# EAGLE library part MX150-4X2 (library Skoba)
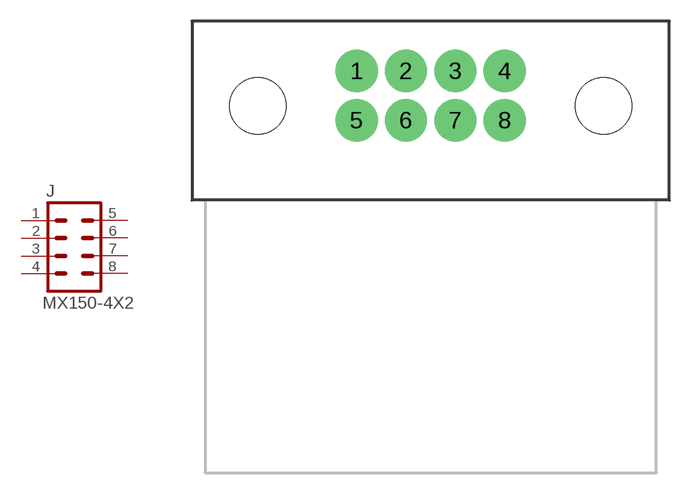
[diagram p51: symbol with the pads of MOLEX-2X4-MX150; footprint MOLEX-2X4-MX150]

Designator prefix J

## MX150-4X2  [MOLEX-2X4-MX150]
1  1  pas
2  2  pas
3  3  pas
4  4  pas
5  5  pas
6  6  pas
7  7  pas
8  8  pas

## Footprint MOLEX-2X4-MX150 (pad centres in mm)
drill 1.5 pad 3: 1 -5.25,2.46; 2 -1.75,2.46; 3 1.75,2.46; 4 5.25,2.46; 5 -5.25,-1.04; 6 -1.75,-1.04; 7 1.75,-1.04; 8 5.25,-1.04
hole 4 at -12.25,0
hole 4 at 12.25,0